# EAGLE library part CONNECTOR_02_X_07 (library Livolo_EU_2Gang_1way)
2*7 connector At the moment only with 2mm spacing
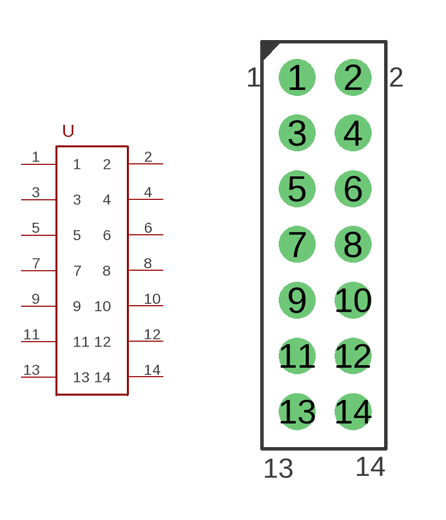
[diagram p3: symbol with the pads of CONNECTOR_02_X_07_2MM; footprint CONNECTOR_02_X_07_2MM]

Designator prefix -

## CONNECTOR_02_X_072MM_SPACING  [CONNECTOR_02_X_07_2MM]
1  1
2  2
3  3
4  4
5  5
6  6
7  7
8  8
9  9
10  10
11  11
12  12
13  13
14  14

## Footprint CONNECTOR_02_X_07_2MM (pad centres in mm)
drill 0.8: 1 1.27,-1.27; 2 3.27,-1.27; 3 1.27,-3.27; 4 3.27,-3.27; 5 1.27,-5.27; 6 3.27,-5.27; 7 1.27,-7.27; 8 3.27,-7.27; 9 1.27,-9.27; 10 3.27,-9.27; 11 1.27,-11.27; 12 3.27,-11.27; 13 1.27,-13.27; 14 3.27,-13.27